# EAGLE library part NHD-C0216CIZ-FN-FBW-3V (library nhd-cog)
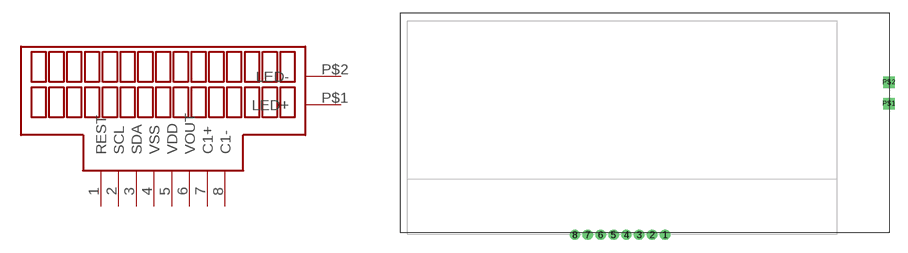
[diagram p0: symbol with the pads of SIL8-1.5; footprint SIL8-1.5]

Designator prefix -

## NHD-C0216CIZ-FN-FBW-3V  [SIL8-1.5]
1  REST
2  SCL
3  SDA
4  VSS  pwr
5  VDD  pwr
6  VOUT  out
7  C1+
8  C1-
P$1  LED+  pwr
P$2  LED-  pwr

## Footprint SIL8-1.5 (pad centres in mm)
drill 0.7: 1 10.5,0; 2 9,0; 3 7.5,0; 4 6,0; 5 4.5,0; 6 3,0; 7 1.5,0; 8 0,0
drill 0.8 square: P$1 36.6,15.3; P$2 36.6,17.8